# Altium footprint library Footprint_Thru-Hole_Headers.PcbLib: 20 footprints (part 1 of 2)
Each footprint in its own frame and in the unit in brackets; x right, y up, seen from the top. Pads: shape width x height; smd on the part's side, far side on the other; paste and mask are expansions set on the pad; w line width, h text height; cw(c..) or ccw(c..) is an arc to the next point about the centre after c.
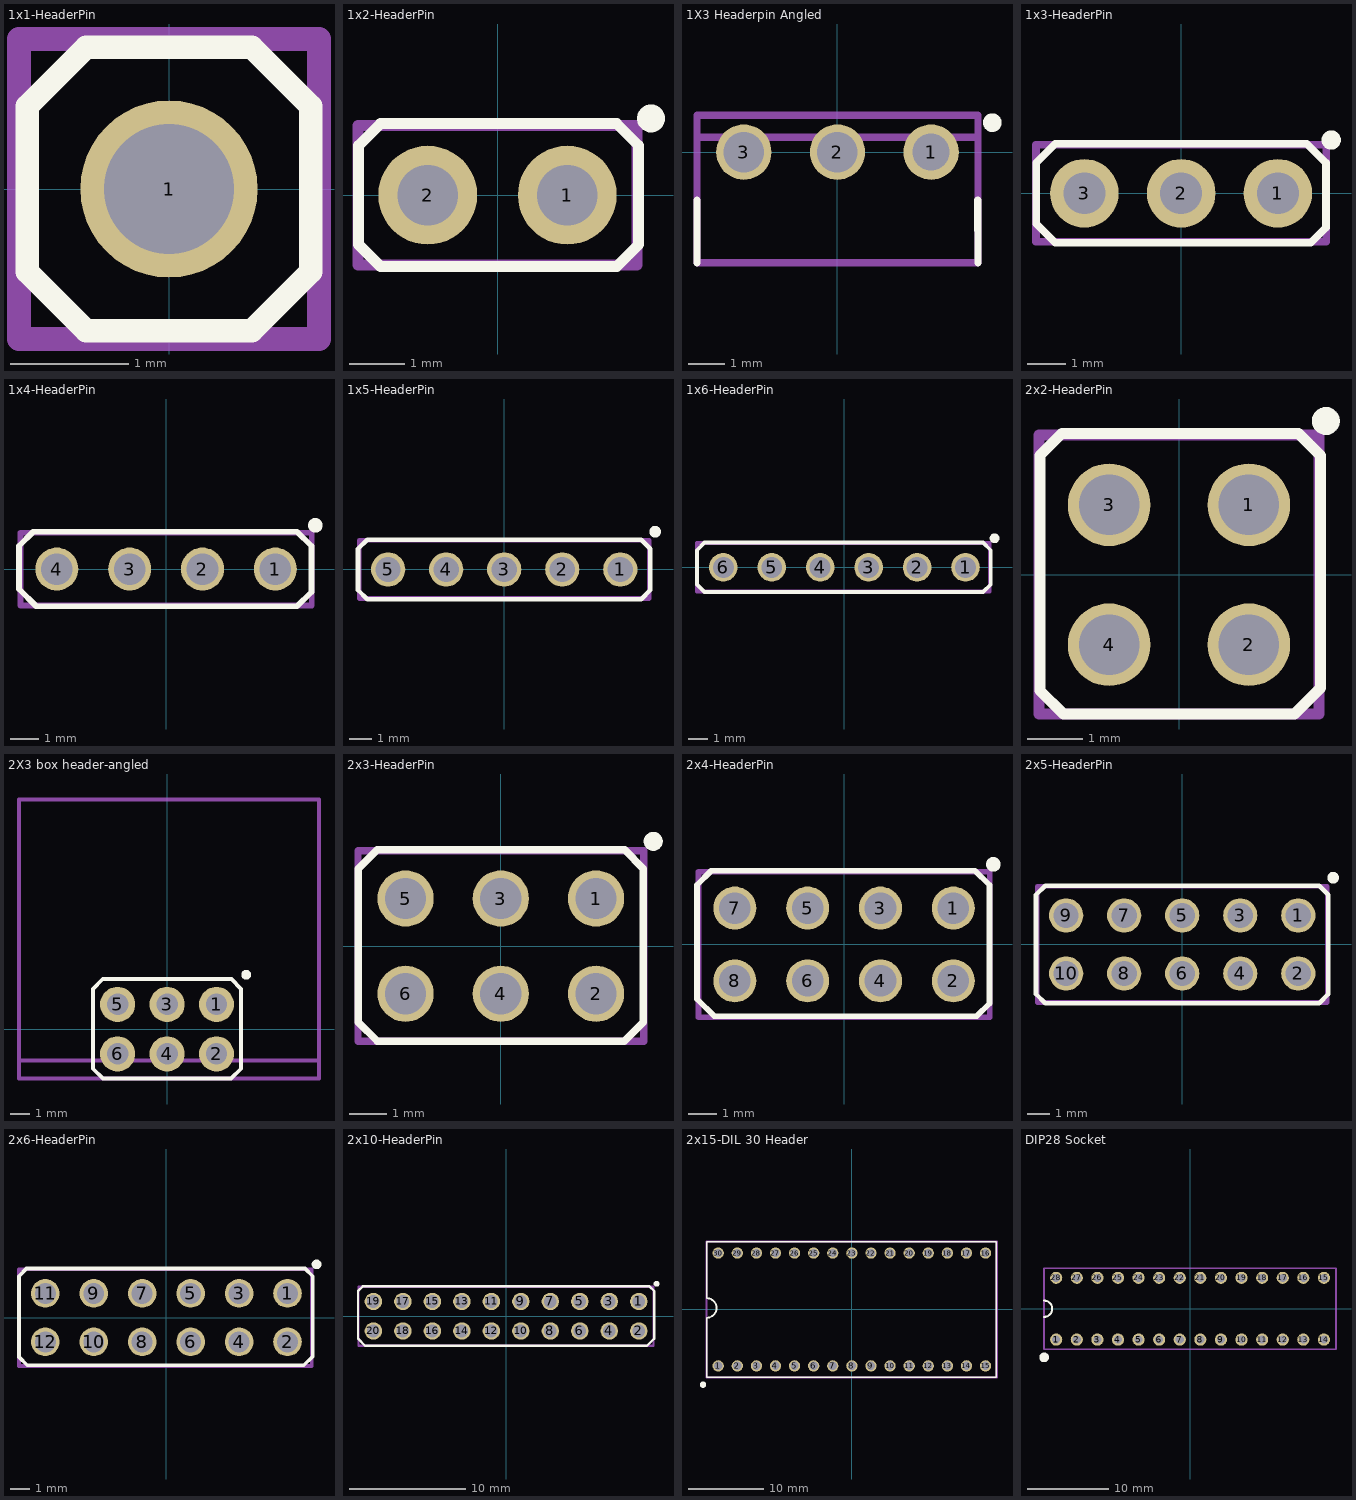
[diagram p0: the footprints below, top view; thin cyan lines are the x and y axes]

## 1x1-HeaderPin [mm] "Single Header Pin"
height 11.54
pads (1):
  round 1.5 hole 1.1: 1(0,0)
Top Overlay:
  lines w0.2: -1.2,-0.7 -0.7,-1.2 0.7,-1.2 1.2,-0.7 1.2,0.7 0.7,1.2 -0.7,1.2 -1.2,0.7 -1.2,-0.7
Mechanical 13:
  lines w0.2: -1.27,-1.27 -1.27,1.27 1.27,1.27 1.27,-1.27 -1.27,-1.27
Mechanical 15:
  lines w0.2: -1.27,-1.27 1.27,-1.27 1.27,1.27 -1.27,1.27 -1.27,-1.27
3D body "User Library-Header Vertical 2_54mm Pitch2-1.step": height 5.94, standoff -2.94, extent -1.26,-1.3 1.28,1.24

## 1x2-HeaderPin [mm] "1x2 Header Pin"
height 11.54
pads (2):
  round 1.8 hole 1.1: 1(1.27,0) 2(-1.27,0)
Top Overlay:
  circle w0.254: c2.794,1.397 r0.127
  lines w0.2: -2.53,-0.9 -2.53,0.9 -2.13,1.3 2.17,1.3 2.57,0.9 2.57,-0.9 2.17,-1.3 -2.13,-1.3 -2.53,-0.9
Mechanical 13:
  lines w0.2: -2.54,-1.27 2.54,-1.27 2.54,1.27 -2.54,1.27 -2.54,-1.27
Mechanical 15:
  lines w0.2: -2.54,-1.27 2.54,-1.27 2.54,1.27 -2.54,1.27 -2.54,-1.27
3D body "User Library-2Header Vertical 2_54mm Pitch2-1.step": height 5.94, standoff -2.94, extent -2.57,-1.3 2.51,1.24

## 1X3 Headerpin Angled [mm]
pads (3):
  round 1.5 hole 1: 1(2.54,0)
  round 1.5 hole 1.1: 2(0,0) 3(-2.54,0)
Top Overlay:
  circle w0.254: c4.2,0.8 r0.127
  lines w0.2: -3.81,-3 -3.81,-1.3 ; 3.8,-1.3 3.81,-3
Mechanical 13:
  lines w0.2: -3.81,-3 3.81,-3 3.81,0.4 -3.81,0.4 -3.81,-3
Mechanical 15:
  lines w0.2: -3.81,-3 3.81,-3 3.81,1 -3.81,1 -3.81,-3
3D body "588726_640457-3.stp": height 5.97, standoff -3.42, extent -3.81,-10.693 3.81,0.356

## 1x3-HeaderPin [mm] "1x3 Header Pin"
height 11.54
pads (3):
  round 1.8 hole 1.1: 1(2.54,0) 2(0,0) 3(-2.54,0)
Top Overlay:
  circle w0.254: c3.937,1.397 r0.127
  lines w0.2: -3.8,-0.8 -3.3,-1.3 3.4,-1.3 3.8,-0.9 3.8,0.8 3.3,1.3 -3.3,1.3 -3.8,0.8 -3.8,-0.8
Mechanical 13:
  lines w0.2: -3.81,-1.27 -3.81,1.27 3.81,1.27 3.81,-1.27 -3.81,-1.27
Mechanical 15:
  lines w0.2: -3.81,-1.27 -3.81,1.27 3.81,1.27 3.81,-1.27 -3.81,-1.27
3D body "User Library-3Header Vertical 2_54mm Pitch2-1.step": height 5.94, standoff -2.94, extent -3.84,-1.2 3.78,1.34

## 1x4-HeaderPin [mm] "1x4 Header Pin"
height 11.54
pads (4):
  round 1.5 hole 1.1: 1(3.81,0) 2(1.27,0) 3(-1.27,0) 4(-3.81,0)
Top Overlay:
  circle w0.254: c5.207,1.524 r0.127
  lines w0.2: -5.13,-0.7 -5.13,0.8 -4.63,1.3 4.57,1.3 5.07,0.8 5.07,-0.8 4.57,-1.3 -4.53,-1.3 -5.13,-0.7
Mechanical 13:
  lines w0.2: -5.08,-1.27 -5.08,1.27 5.08,1.27 5.08,-1.27 -5.08,-1.27
Mechanical 15:
  lines w0.2: -5.08,-1.27 -5.08,1.27 5.08,1.27 5.08,-1.27 -5.08,-1.27
3D body "User Library-4Header Vertical 2_54mm Pitch2-1.step": height 5.94, standoff -2.94, extent -5.04,-1.3 5.12,1.24

## 1x5-HeaderPin [mm] "1x5 Header Pin"
height 11.54
pads (5):
  round 1.5 hole 1.1: 1(5.08,0) 2(2.54,0) 3(0,0) 4(-2.54,0) 5(-5.08,0)
Top Overlay:
  circle w0.254: c6.604,1.651 r0.127
  lines w0.2: -6.4,-0.9 -6.4,0.9 -6,1.3 6,1.3 6.4,0.9 6.4,-0.9 6,-1.3 -6,-1.3 -6.4,-0.9
Mechanical 13:
  lines w0.2: -6.35,-1.27 -6.35,1.27 6.35,1.27 6.35,-1.27 -6.35,-1.27
Mechanical 15:
  lines w0.2: -6.35,-1.27 6.35,-1.27 6.35,1.27 -6.35,1.27 -6.35,-1.27
3D body "User Library-5Header Vertical 2_54mm Pitch2-1.step": height 5.94, standoff -2.94, extent -6.35,-1.24 6.35,1.3

## 1x6-HeaderPin [mm] "1x6 Header Pin"
height 11.54
pads (6):
  round 1.5 hole 1.1: 1(6.35,0) 2(3.81,0) 3(1.27,0) 4(-1.27,0) 5(-3.81,0) 6(-6.35,0)
Top Overlay:
  circle w0.254: c7.874,1.524 r0.127
  lines w0.2: -7.73,-0.9 -7.33,-1.3 -4.73,-1.3 7.27,-1.3 7.67,-0.9 7.67,0.9 7.27,1.3 -4.73,1.3 -7.33,1.3 -7.73,0.9 -7.73,-0.9
Mechanical 13:
  lines w0.2: -7.73,-1.27 7.62,-1.27 7.62,1.27 -7.73,1.27 -7.73,-1.27
Mechanical 15:
  lines w0.2: -7.73,-1.27 -7.73,1.27 7.62,1.27 7.62,-1.27 -7.73,-1.27
3D body "User Library-6Header Vertical 2_54mm Pitch2-1.step": height 5.94, standoff -2.94, extent -7.57,-1.3 7.67,1.24

## 2x2-HeaderPin [mm] "2x2 Header Pin"
height 11.54
pads (4):
  round 1.5 hole 1.1: 1(1.27,1.27) 2(1.27,-1.27) 3(-1.27,1.27) 4(-1.27,-1.27)
Top Overlay:
  circle w0.254: c2.667,2.794 r0.127
  lines w0.2: -2.53,-2.1 -2.53,2.17 -2.13,2.57 2.17,2.57 2.57,2.17 2.57,-2.06 2.1,-2.53 -2.1,-2.53 -2.53,-2.1
Mechanical 13:
  lines w0.2: -2.54,-2.53 -2.54,2.54 2.54,2.54 2.54,-2.53 -2.54,-2.53
Mechanical 15:
  lines w0.2: -2.54,-2.53 -2.54,2.54 2.54,2.54 2.54,-2.53 -2.54,-2.53
3D body "User Library-2x2Header Vertical 2_54mm Pitch2-1.step": height 5.94, standoff -2.94, extent -2.54,-2.5 2.54,2.58

## 2X3 box header-angled [mm]
pads (6):
  round 1.8 hole 1.1: 1(2.54,1.27) 2(2.54,-1.27) 3(0,1.27) 4(0,-1.27) 5(-2.54,1.27) 6(-2.54,-1.27)
Top Overlay:
  circle w0.254: c4.064,2.794 r0.127
  lines w0.2: -3.8,-2.03 -3.29,-2.54 3.29,-2.54 3.8,-2.03 3.8,2.07 3.3,2.57 -3.3,2.57 -3.8,2.07 -3.8,-2.03
Mechanical 13:
  lines w0.2: -7.6,-1.6 -7.6,11.8 7.8,11.8 7.8,-1.6 -7.6,-1.6
Mechanical 15:
  lines w0.2: -7.6,-2.54 7.8,-2.54 7.8,11.8 -7.6,11.8 -7.6,-2.54
3D body "2x3 header-angled.stp": height 9.4, standoff -3.05, extent -7.62,-1.53 7.8,11.73

## 2x3-HeaderPin [mm] "2x3 Header Pin"
height 11.54
pads (6):
  round 1.5 hole 1.1: 1(2.54,1.27) 2(2.54,-1.27) 3(0,1.27) 4(0,-1.27) 5(-2.54,1.27) 6(-2.54,-1.27)
Top Overlay:
  circle w0.254: c4.064,2.794 r0.127
  lines w0.2: -3.8,-2.03 -3.29,-2.54 3.29,-2.54 3.8,-2.03 3.8,2.07 3.3,2.57 -3.3,2.57 -3.8,2.07 -3.8,-2.03
Mechanical 13:
  lines w0.2: -3.81,-2.54 -3.81,2.54 3.81,2.54 3.81,-2.54 -3.81,-2.54
Mechanical 15:
  lines w0.2: -3.81,-2.54 -3.81,2.54 3.81,2.54 3.81,-2.54 -3.81,-2.54
3D body "User Library-2x3Header Vertical 2_54mm Pitch2-1.step": height 5.94, standoff -2.94, extent -3.74,-2.5 3.88,2.58

## 2x4-HeaderPin [mm] "2x4 Header Pin"
height 11.54
pads (8):
  round 1.5 hole 1.1: 1(3.81,1.27) 2(3.81,-1.27) 3(1.27,1.27) 4(1.27,-1.27) 5(-1.27,1.27) 6(-1.27,-1.27) 7(-3.81,1.27) 8(-3.81,-1.27)
Top Overlay:
  circle w0.254: c5.207,2.794 r0.127
  lines w0.2: -5.13,-1.9 -4.53,-2.5 4.63,-2.5 5.07,-2.06 5.07,2.07 4.57,2.57 -4.63,2.57 -5.13,2.07 -5.13,-1.9
Mechanical 13:
  lines w0.2: -5.08,-2.54 5.08,-2.54 5.08,2.54 -5.08,2.54 -5.08,-2.54
Mechanical 15:
  lines w0.2: -5.08,-2.54 -5.08,2.54 5.08,2.54 5.08,-2.54 -5.08,-2.54
3D body "User Library-2x4Header Vertical 2_54mm Pitch2-1.step": height 5.94, standoff -2.94, extent -5.08,-2.6 5.08,2.48

## 2x5-HeaderPin [mm] "2x5 Header Pin"
height 11.54
pads (10):
  round 1.5 hole 1.1: 1(5.08,1.27) 2(5.08,-1.27) 3(2.54,1.27) 4(2.54,-1.27) 5(0,1.27) 6(0,-1.27) 7(-2.54,1.27) 8(-2.54,-1.27) 9(-5.08,1.27) 10(-5.08,-1.27)
Top Overlay:
  circle w0.254: c6.604,2.921 r0.127
  lines w0.2: -6.4,-2.17 -6,-2.57 6,-2.57 6.4,-2.17 ; -6.4,-2.13 -6.4,2.17 -6,2.57 6,2.57 6.4,2.17 6.4,-2.13
Mechanical 13:
  lines w0.2: -6.35,-2.54 6.35,-2.54 ; -6.35,-2.5 -6.35,2.54 6.35,2.54 6.35,-2.5
Mechanical 15:
  lines w0.2: -6.35,-2.54 6.35,-2.54 ; -6.35,-2.5 -6.35,2.54 6.35,2.54 6.35,-2.5
3D body "User Library-5Header Vertical 2_54mm Pitch2-1.step": height 5.94, standoff -2.94, extent -6.35,0.03 6.35,2.57
3D body "User Library-5Header Vertical 2_54mm Pitch2-1.step": height 5.94, standoff -2.94, extent -6.35,-2.51 6.35,0.03

## 2x6-HeaderPin [mm] "2x6 Header Pin"
height 11.54
pads (12):
  round 1.5 hole 1.1: 1(6.35,1.27) 2(6.35,-1.27) 3(3.81,1.27) 4(3.81,-1.27) 5(1.27,1.27) 6(1.27,-1.27) 7(-1.27,1.27) 8(-1.27,-1.27) 9(-3.81,1.27) 10(-3.81,-1.27) 11(-6.35,1.27) 12(-6.35,-1.27)
Top Overlay:
  circle w0.254: c7.874,2.794 r0.127
  lines w0.2: -7.73,-2.07 -7.73,2.17 -7.33,2.57 -4.73,2.57 7.27,2.57 7.67,2.17 7.67,-2.03 7.2,-2.5 -7.3,-2.5 -7.73,-2.07
Mechanical 13:
  lines w0.2: -7.73,-2.54 -7.73,2.54 7.62,2.54 7.62,-2.54 -7.73,-2.54
Mechanical 15:
  lines w0.2: -7.73,-2.54 7.62,-2.54 7.62,2.54 -7.73,2.54 -7.73,-2.54
3D body "User Library-2x6Header Vertical 2_54mm Pitch2-1.step": height 5.94, standoff -2.94, extent -7.64,-2.6 7.6,2.48

## 2x10-HeaderPin [mm] "2x10 Header Pin"
height 11.54
pads (20):
  round 1.5 hole 1.1: 1(11.43,1.27) 2(11.43,-1.27) 3(8.89,1.27) 4(8.89,-1.27) 5(6.35,1.27) 6(6.35,-1.27) 7(3.81,1.27) 8(3.81,-1.27) 9(1.27,1.27) 10(1.27,-1.27) 11(-1.27,1.27) 12(-1.27,-1.27) 13(-3.81,1.27) 14(-3.81,-1.27) 15(-6.35,1.27) 16(-6.35,-1.27) 17(-8.89,1.27) 18(-8.89,-1.27) 19(-11.43,1.27) 20(-11.43,-1.27)
Top Overlay:
  circle w0.254: c12.954,2.794 r0.127
  lines w0.2: -12.75,-1.93 -12.14,-2.54 12.14,-2.54 12.75,-1.93 12.75,2.17 12.35,2.57 -12.35,2.57 -12.75,2.17 -12.75,-1.93
Mechanical 13:
  lines w0.2: -12.7,-2.54 12.7,-2.54 12.7,2.54 -12.7,2.54 -12.7,-2.54
Mechanical 15:
  lines w0.2: -12.7,-2.54 12.7,-2.54 12.7,2.54 -12.7,2.54 -12.7,-2.54
3D body "User Library-5Header Vertical 2_54mm Pitch2-1.step": height 5.94, standoff -2.94, extent -12.7,-2.51 0,0.03
3D body "User Library-5Header Vertical 2_54mm Pitch2-1.step": height 5.94, standoff -2.94, extent -12.7,0.03 0,2.57
3D body "User Library-5Header Vertical 2_54mm Pitch2-1.step": height 5.94, standoff -2.94, extent 0,-2.51 12.7,0.03
3D body "User Library-5Header Vertical 2_54mm Pitch2-1.step": height 5.94, standoff -2.94, extent 0,0.03 12.7,2.57

## 2x15-DIL 30 Header [mm] "Arduino Nano3 header"
height 11.54
pads (30):
  round 1.5 hole 1.1: 1(-17.78,-7.5) 2(-15.24,-7.5) 3(-12.7,-7.5) 4(-10.16,-7.5) 5(-7.62,-7.5) 6(-5.08,-7.5) 7(-2.54,-7.5) 8(0,-7.5) 9(2.54,-7.5) 10(5.08,-7.5) 11(7.62,-7.5) 12(10.16,-7.5) 13(12.7,-7.5) 14(15.24,-7.5) 15(17.78,-7.5) 16(17.78,7.5) 17(15.24,7.5) 18(12.7,7.5) 19(10.16,7.5) 20(7.62,7.5) 21(5.08,7.5) 22(2.54,7.5) 23(0,7.5) 24(-2.54,7.5) 25(-5.08,7.5) 26(-7.62,7.5) 27(-10.16,7.5) 28(-12.7,7.5) 29(-15.24,7.5) 30(-17.78,7.5)
Top Overlay:
  circle w0.254: c-19.8,-10 r0.3
  circle w0.254: c-19.8,-10 r0.1
  lines w0.2: -19.3,-1.1 -19.3,-9 19.2,-9 19.2,9 -19.3,9 -19.3,1.5
  lines w0.254: -19.3,-1.1 ccw(c-19.3,0.2) -19.3,1.5
Mechanical 13:
  lines w0.2: -19.3,-9 -19.3,9 19.2,9 19.2,-9 -19.3,-9
Mechanical 15:
  lines w0.2: -19.4,-9.1 19.3,-9.1 19.3,9.1 -19.4,9.1 -19.4,-9.1

## DIP28 Socket [mm]
pads (28):
  round 1.5 hole 1: 1(-16.51,-3.81) 2(-13.97,-3.81) 3(-11.43,-3.81) 4(-8.89,-3.81) 5(-6.35,-3.81) 6(-3.81,-3.81) 7(-1.27,-3.81) 8(1.27,-3.81) 9(3.81,-3.81) 10(6.35,-3.81) 11(8.89,-3.81) 12(11.43,-3.81) 13(13.97,-3.81) 14(16.51,-3.81) 15(16.51,3.81) 16(13.97,3.81) 17(11.43,3.81) 18(8.89,3.81) 19(6.35,3.81) 20(3.81,3.81) 21(1.27,3.81) 22(-1.27,3.81) 23(-3.81,3.81) 24(-6.35,3.81) 25(-8.89,3.81) 26(-11.43,3.81) 27(-13.97,3.81) 28(-16.51,3.81)
Top Overlay:
  circle w0.6: c-18,-6 r0.3
  lines w0.254: -18,-1 ccw(c-18,0) -18,1
Mechanical 13:
  lines w0.2: -18,-5 -18,5 18,5 18,-5 -18,-5
Mechanical 15:
  lines w0.2: -18.01,-5 -18.01,5 17.99,5 17.99,-5 -18.01,-5